# Altium schematic symbol library Switches.SchLib: 2 symbols
Pins are listed as number, name and electrical type; pins without a type are passive.

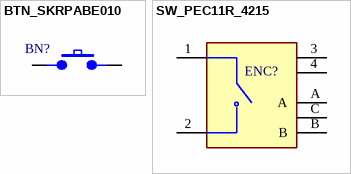
[diagram p0: symbols BTN_SKRPABE010 to SW_PEC11R_4215]

## BTN_SKRPABE010
designator BN?, comment SKRPABE010  (value not drawn)
3.2mm 2.5mm button 50mA Brick SPST 16V SMD Tactile Switches; Mfr.part: SKRPABE010; JLCPCB Part: ?; LCSC Part: ?
footprint BTN_SKRPABE010
pins: 12, 34

## SW_PEC11R_4215
designator ENC?, comment PEC11R_4215  (value not drawn)
Encoder 24 PPR 2 Bit Quadrature 5VDC at 10 mA; Mrf. Part: PEC11R-4215F-S0024; LCSC Part: ?; JLCPCB Part: ?
footprint SWC_PEC11R_4215F_S0024
pins: 1, 2, 3 MNT_1, 4 MNT_2, A, B, C COM